# Altium footprint library FMA_Sensor.PcbLib: 10 footprints
Each footprint in its own frame and in the unit in brackets; x right, y up, seen from the top. Pads: shape width x height; smd on the part's side, far side on the other; paste and mask are expansions set on the pad; w line width, h text height; cw(c..) or ccw(c..) is an arc to the next point about the centre after c.
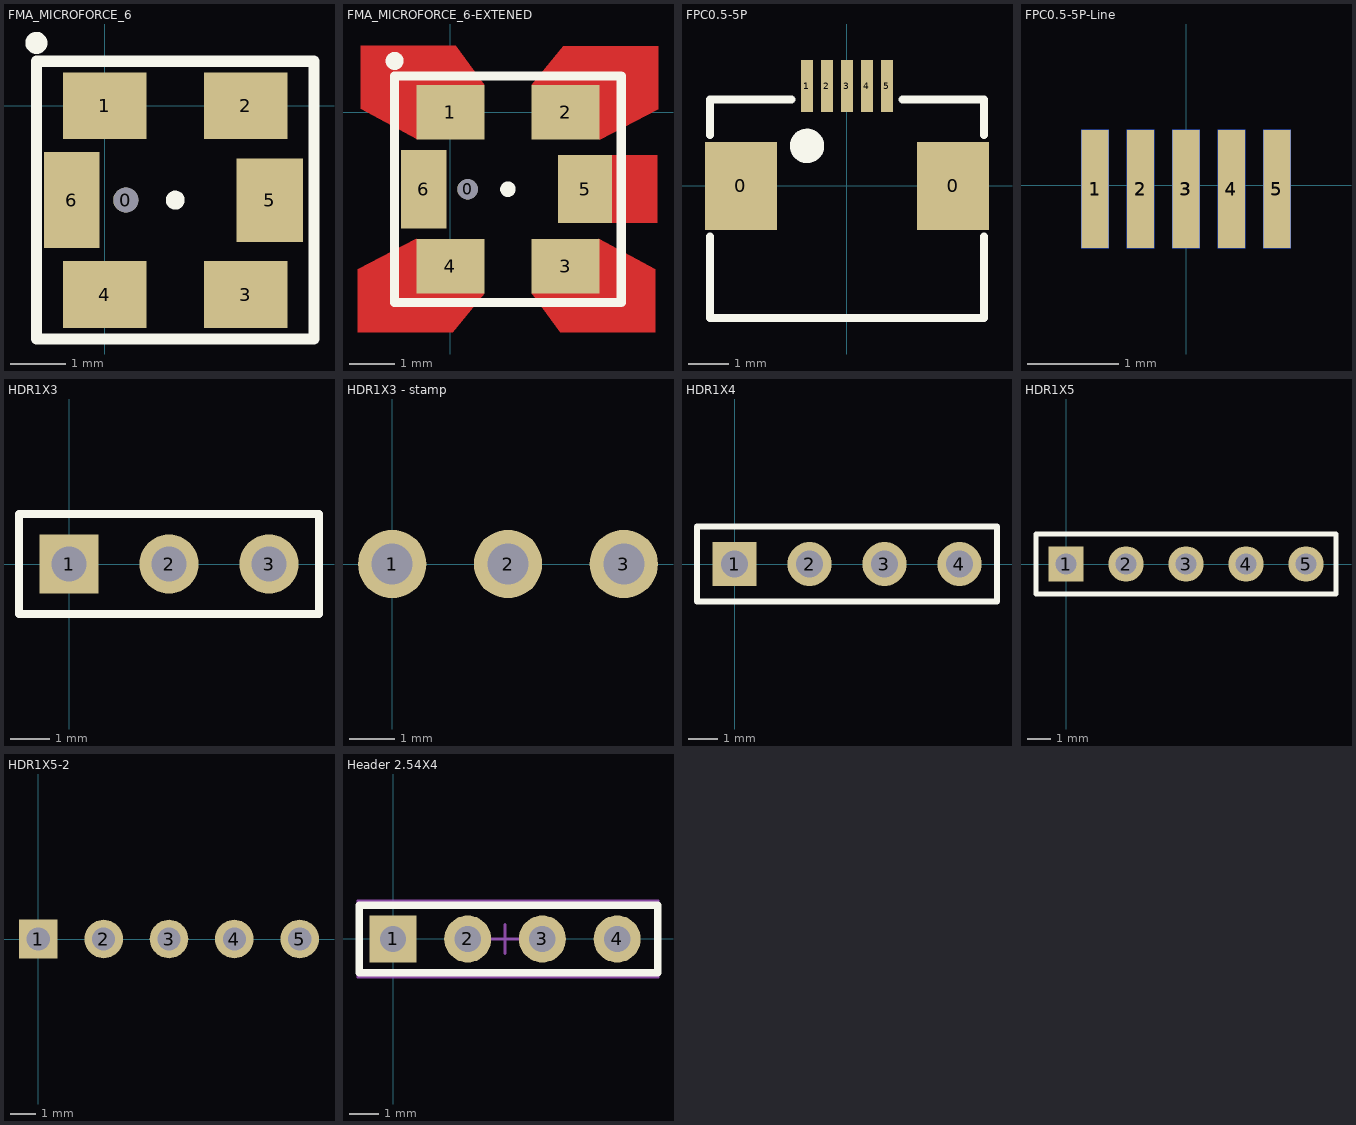
[diagram p0: the footprints below, top view; thin cyan lines are the x and y axes]

## FMA_MICROFORCE_6 [mm]
pads (7):
  round 0.45 hole 0.45 unplated: 0(0.38,-1.7)
  rect 1.5x1.2 smd: 1(0,0) 2(2.54,0) 3(2.54,-3.4) 4(0,-3.4)
  rect 1.2x1.5 smd: 5(2.97,-1.7)
  rect 1x1.73 smd: 6(-0.59,-1.7)
Top Overlay:
  circle w0.254: c-1.23,1.13 r0.071
  circle w0.2: c1.27,-1.7 r0.07
  lines w0.2: -1.23,-4.2 -1.23,0.8 3.77,0.8 3.77,-4.2 -1.23,-4.2
3D body "FMA-Sensor-Body.stp": height 2.55, standoff 0, extent -1.23,-4.2 3.77,0.8

## FMA_MICROFORCE_6-EXTENED [mm]
pads (7):
  round 0.45 hole 0.45 unplated: 0(0.38,-1.7)
  rect 1.5x1.2 smd: 1(0,0) 2(2.54,0) 3(2.54,-3.4) 4(0,-3.4)
  rect 1.2x1.5 smd: 5(2.97,-1.7)
  rect 1x1.73 smd: 6(-0.59,-1.7)
Top Layer:
  rectangle: 3.538,-2.449 4.575,-0.949
  region: 1.794,0.6 2.492,1.45 4.58,1.45 4.58,0.069 3.296,-0.605
  region: 0.749,-4.001 0.051,-4.851 -2.038,-4.851 -2.038,-3.47 -0.754,-2.796
  region: -0.732,-0.594 -1.976,0.079 -1.976,1.466 0.122,1.466 0.749,0.602
  region: 3.275,-2.797 4.519,-3.47 4.519,-4.856 2.421,-4.856 1.793,-3.993
Top Overlay:
  circle w0.2: c1.27,-1.7 r0.07
  circle w0.254: c-1.23,1.13 r0.071
  lines w0.2: -1.23,-4.2 3.77,-4.2 3.77,0.8 -1.23,0.8 -1.23,-4.2
Top Solder:
  rectangle: 3.538,-2.449 4.575,-0.949
  region: 1.794,0.6 2.492,1.45 4.58,1.45 4.58,0.069 3.296,-0.605
  region: 0.749,-4.001 0.051,-4.851 -2.038,-4.851 -2.038,-3.47 -0.754,-2.796
  region: -0.732,-0.594 -1.976,0.079 -1.976,1.466 0.122,1.466 0.749,0.602
  region: 3.275,-2.797 4.519,-3.47 4.519,-4.856 2.421,-4.856 1.793,-3.993
3D body "FMA-Sensor-Body.stp": height 2.55, standoff 0, extent -1.23,-4.2 3.77,0.8

## FPC0.5-5P [mm]
pads (7):
  rect 1.8x2.2 smd: 0(-2.65,0) 0(2.65,0)
  rect 0.3x1.3 smd: 1(-1,2.497) 2(-0.5,2.497) 3(0,2.497) 4(0.5,2.497) 5(1,2.497)
Top Overlay:
  circle w0.5: c-1,1 r0.18
  lines w0.2: -3.425,-1.27 -3.425,-3.302 3.425,-3.302 3.425,-1.27 ; -3.425,1.27 -3.425,2.159 -1.393,2.159 ; 1.393,2.159 3.425,2.159 3.425,1.27
3D body "FPC0.5-5P.STEP": height 2, standoff -0.01, extent -3.35,-3.15 3.35,2.85

## FPC0.5-5P-Line [mm]
pads (10):
  rect 0.3x1.3 smd: 1(-1,-0.043) 2(-0.5,-0.043) 3(0,-0.043) 4(0.5,-0.043) 5(1,-0.043)
  rect 0.3x1.3 smd far side: 1(-1,-0.043) 2(-0.5,-0.043) 3(0,-0.043) 4(0.5,-0.043) 5(1,-0.043)

## HDR1X3 [mm] "Connector; Header; 3 Position"
pads (3):
  rect 1.5x1.5 hole 0.9: 1(0,0)
  round 1.5 hole 0.9: 2(2.54,0) 3(5.08,0)
Top Overlay:
  lines w0.2: -1.27,-1.27 -1.27,1.27 6.35,1.27 6.35,-1.27 -1.27,-1.27

## HDR1X3 - stamp [mm] "Connector; Header; 3 Position"
pads (3):
  round 1.5 / inner round 1.5 / far side rect 1.5x1.5 hole 0.9: 1(0,0) 2(2.54,0) 3(5.08,0)

## HDR1X4 [mm] "Connector; Header; 4 Position"
pads (4):
  rect 1.5x1.5 hole 0.9: 1(0,0)
  round 1.5 hole 0.9: 2(2.54,0) 3(5.08,0) 4(7.62,0)
Top Overlay:
  lines w0.2: -1.27,-1.27 8.89,-1.27 8.89,1.27 -1.27,1.27 -1.27,-1.27

## HDR1X5 [mm] "Connector; Header; 4 Position"
pads (5):
  rect 1.5x1.5 hole 0.9: 1(0,0)
  round 1.5 hole 0.9: 2(2.54,0) 3(5.08,0) 4(7.62,0) 5(10.16,0)
Top Overlay:
  lines w0.2: -1.27,-1.27 11.43,-1.27 11.43,1.27 -1.27,1.27 -1.27,-1.27

## HDR1X5-2 [mm] "Connector; Header; 4 Position"
pads (5):
  rect 1.5x1.5 hole 0.9: 1(0,0)
  round 1.5 hole 0.9: 2(2.54,0) 3(5.08,0) 4(7.62,0) 5(10.16,0)

## Header 2.54X4 [mm]
pads (4):
  rect 1.6x1.6 hole 0.9: 1(0,0)
  round 1.6 hole 0.9: 2(2.54,0) 3(5.08,0) 4(7.62,0)
Top Overlay:
  lines w0.254: -1.143,-1.143 -1.143,1.143 9,1.143 9,-1.143 -1.143,-1.143
Mechanical 15:
  lines w0.1: 3.31,0 4.31,0 ; 3.81,-0.5 3.81,0.5 ; -1.19,-1.3 -1.19,1.3 9.01,1.3 9.01,-1.3 -1.19,-1.3
3D body "HEADER 2.54X4.stp": height 8.3, standoff -2.9, extent -1.143,-1.228 9.017,1.27